# Altium schematic symbol library NXP_RFID.SchLib: 32 symbols
Pins are listed as number, name and electrical type; pins without a type are passive.

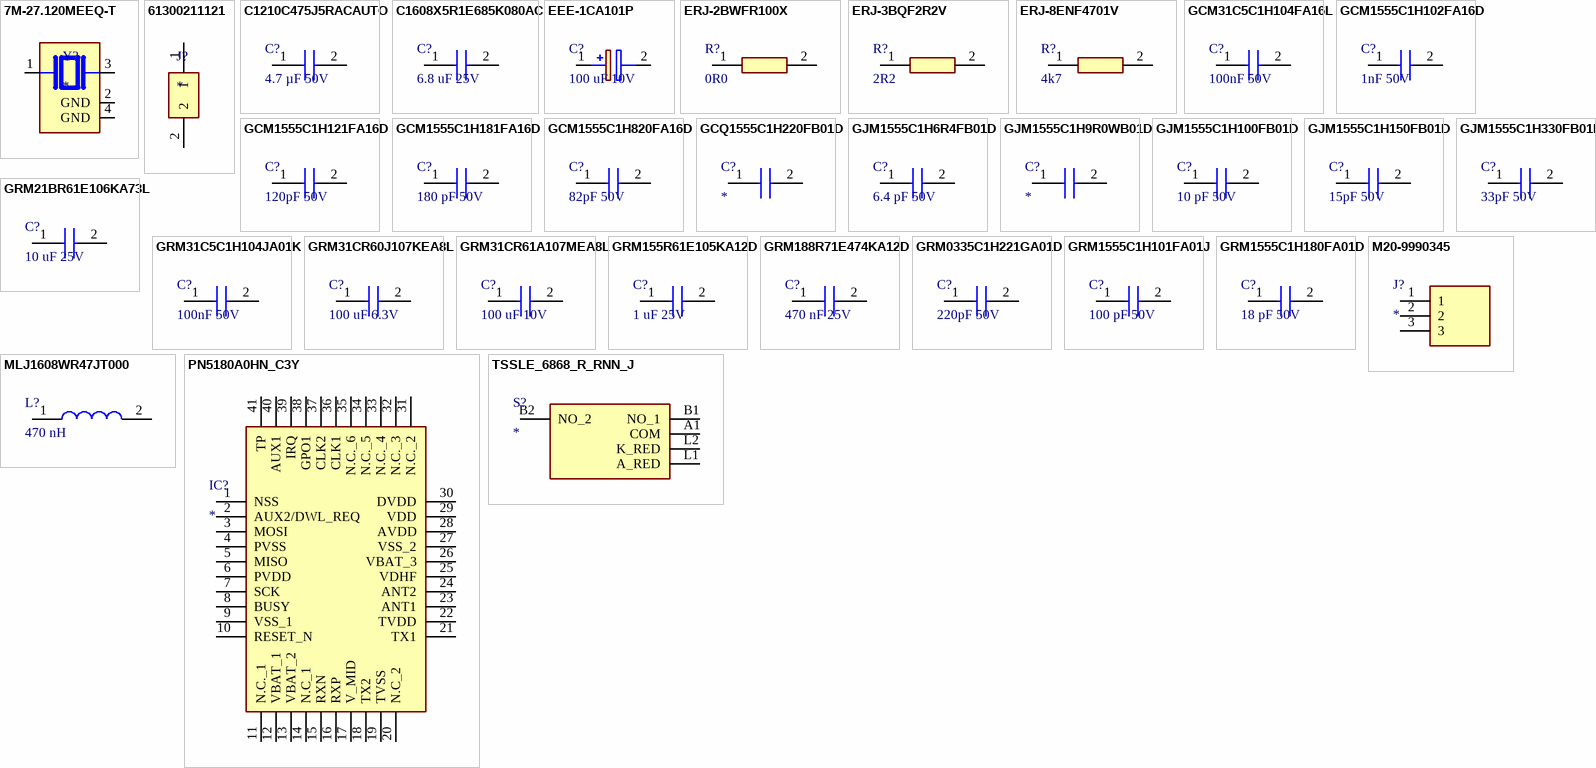
[diagram p0: symbols 7M-27.120MEEQ-T to TSSLE_6868_R_RNN_J]

## 7M-27.120MEEQ-T
designator Y?
27.12 MHz Â±10ppm Crystal 10pF 50 Ohms 4-SMD, No Lead; MF: TXC CORPORATION; MP: 7M-27.120MEEQ-T; SnapEDA_Link: https://www.snapeda.com/parts/7M-27.120MEEQ-T/TXC/view-part/?ref=snap; Package: NON STANDARD-4 TXC; Value: *; Check_prices: https://www.snapeda.com/parts/7M-27.120MEEQ-T/TXC/view-part/?ref=eda
footprint XTAL_7M-27.120MEEQ-T
pins: 1, 2 GND (power), 3 2, 4 GND (power)

## 61300211121
designator J?
Connector Header Through Hole 2 position 0.100" (2.54mm); Manufacturer_Name: Wurth Elektronik; Manufacturer_Part_Number: 61300211121; Datasheet Link: https://componentsearchengine.com/Datasheets/2/61300211121.pdf; Height: 8.54mm; Mouser Part Number: 710-61300211121; Mouser Price/Stock: https://www.mouser.co.uk/ProductDetail/Wurth-Elektronik/61300211121?qs=t4813l51qx%252B1A5GYDQxPlw%3D%3D
footprint HDRV2W110P0X254_1X2_508X254X854P (Footprint not found)
pins: 1, 2

## C1210C475J5RACAUTO
designator C?, comment 4.7 µF 50V
4.7 µF ±5% 50V Ceramic Capacitor X7R 1210 (3225 Metric); Manufacturer_Name: KEMET; Manufacturer_Part_Number: C1210C475J5RACAUTO; Datasheet Link: https://content.kemet.com/datasheets/KEM_C1023_X7R_AUTO_SMD.pdf; Mouser Part Number: 80-C1210C475J5RAUTO; Mouser Price/Stock: https://www.mouser.co.uk/ProductDetail/KEMET/C1210C475J5RACAUTO?qs=sSYV1F9c5cHOvq7Y3pUhfA%3D%3D
footprint C1210
pins: 1, 2

## C1608X5R1E685K080AC
designator C?, comment 6.8 uF 25V
6.8 µF ±10% 25V Ceramic Capacitor X5R 0603 (1608 Metric); Manufacturer_Name: TDK; Manufacturer_Part_Number: C1608X5R1E685K080AC; Datasheet Link: https://product.tdk.com/info/en/catalog/datasheets/mlcc_commercial_midvoltage_en.pdf; Height: 0.8mm; Mouser Part Number: 810-C1608X5R1E685KAC; Mouser Price/Stock: https://www.mouser.co.uk/ProductDetail/TDK/C1608X5R1E685K080AC?qs=6JAMGB%252BEdkzXGK7VHVYOAw%3D%3D; Arrow Part Number: C1608X5R1E685K080AC; Arrow Price/Stock: https://www.arrow.com/en/products/c1608x5r1e685k080ac/tdk
footprint CAPC1608X80N
pins: 1, 2

## EEE-1CA101P
designator C?, comment 100 uF 10V
100 µF 10 V Aluminum Electrolytic Capacitors Radial, Can - SMD 1000 Hrs @ 85°C; Manufacturer_Name: Panasonic; Manufacturer_Part_Number: EEE-1CA101P; Datasheet Link: http://industrial.panasonic.com/cdbs/www-data/pdf/RDE0000/ABA0000C1145.pdf; Height: 9.5mm; Mouser Part Number: 667-EEE-1CA101P; Mouser Price/Stock: https://www.mouser.co.uk/ProductDetail/Panasonic/EEE-1CA101P?qs=ANJC8C65Mw5AqqtBCte9ZA%3D%3D; Arrow Part Number: EEE-1CA101P; Arrow Price/Stock: https://www.arrow.com/en/products/eee-1ca101p/panasonic?region=nac
footprint EEE1AA221P
pins: 1 +, 2 -

## ERJ-2BWFR100X
designator R?, comment 0R0
100 mOhms ±1% 0.25W, 1/4W Chip Resistor 0402 (1005 Metric) Automotive AEC-Q200, Current Sense Thick Film; Manufacturer_Name: Panasonic; Manufacturer_Part_Number: ERJ-2BWFR100X; Datasheet Link: http://industrial.panasonic.com/cdbs/www-data/pdf/RDN0000/AOA0000C313.pdf; Mouser Part Number: 667-ERJ-2BWFR100X; Mouser Price/Stock: https://www.mouser.co.uk/ProductDetail/Panasonic/ERJ-2BWFR100X?qs=22lEN67Lqx4XUK2HJ8855A%3D%3D; Arrow Part Number: ERJ-2BWFR100X; Arrow Price/Stock: https://www.arrow.com/en/products/erj-2bwfr100x/panasonic
footprint ERJ_2LW_2BW_2B_(0402)
pins: 1, 2

## ERJ-3BQF2R2V
designator R?, comment 2R2
2.2 Ohms ±1% 0.25W, 1/4W Chip Resistor 0603 (1608 Metric) Automotive AEC-Q200, Current Sense Thick Film; Manufacturer_Name: Panasonic; Manufacturer_Part_Number: ERJ-3BQF2R2V; Datasheet Link: http://industrial.panasonic.com/cdbs/www-data/pdf/RDN0000/AOA0000C313.pdf; Mouser Part Number: 667-ERJ-3BQF2R2V; Mouser Price/Stock: http://www.mouser.com/Search/ProductDetail.aspx?qs=XEzh9JYCtJ3E4ySaXv8uNQ%3d%3d
footprint ERJ3_B_BQ_BW_LW_(0603)
pins: 1, 2

## ERJ-8ENF4701V
designator R?, comment 4k7
4.7 kOhms ±1% 0.25W, 1/4W Chip Resistor 1206 (3216 Metric) Automotive AEC-Q200 Thick Film; Manufacturer_Name: Panasonic; Manufacturer_Part_Number: ERJ-8ENF4701V; Datasheet Link: https://industrial.panasonic.com/cdbs/www-data/pdf/RDA0000/AOA0000C86.pdf; Height: 0.7mm; Mouser Part Number: 667-ERJ-8ENF4701V; Mouser Price/Stock: https://www.mouser.co.uk/ProductDetail/Panasonic/ERJ-8ENF4701V?qs=8%252BG0TiN%2FgVpQwzrqnqT%252BJA%3D%3D; Arrow Part Number: ERJ-8ENF4701V; Arrow Price/Stock: https://www.arrow.com/en/products/erj-8enf4701v/panasonic
footprint ERJ8ENF1000V
pins: 1, 2

## GCM31C5C1H104FA16L
designator C?, comment 100nF 50V
0.1 µF ±5% 50V Ceramic Capacitor C0G, NP0 1206 (3216 Metric); Manufacturer_Name: Murata Electronics; Manufacturer_Part_Number: GCM31C5C1H104FA16L; Datasheet Link: https://search.murata.co.jp/Ceramy/image/img/A01X/G101/ENG/GCM31C5C1H104FA16-01A.pdf; Height: 1.25mm; Mouser Part Number: 81-GCM31C5C1H104FA16; Mouser Price/Stock: https://www.mouser.co.uk/ProductDetail/Murata-Electronics/GCM31C5C1H104FA16L?qs=rrS6PyfT74fke0d0BEF0PA%3D%3D; Arrow Part Number: GCM31C5C1H104FA16L; Arrow Price/Stock: https://www.arrow.com/en/products/gcm31c5c1h104fa16l/murata-manufacturing?region=nac
footprint GCM31C5C2E183FX03L
pins: 1, 2

## GCM1555C1H102FA16D
designator C?, comment 1nF 50V
1000 pF ±1% 50V Ceramic Capacitor C0G, NP0 0402 (1005 Metric); Manufacturer_Name: Murata Electronics; Manufacturer_Part_Number: GCM1555C1H102FA16D; Datasheet Link: https://search.murata.co.jp/Ceramy/image/img/A01X/G101/ENG/GCM1555C1H102FA16-01A.pdf; Height: 0.55mm; Mouser Part Number: 81-GCM1555C1H102FA6D; Mouser Price/Stock: https://www.mouser.co.uk/ProductDetail/Murata-Electronics/GCM1555C1H102FA16D?qs=QzBtWTOodeXpE1CTmLdqWQ%3D%3D; Arrow Part Number: GCM1555C1H102FA16D; Arrow Price/Stock: https://www.arrow.com/en/products/gcm1555c1h102fa16d/murata-manufacturing
footprint GCM155
pins: 1, 2

## GCM1555C1H121FA16D
designator C?, comment 120pF 50V
120 pF ±1% 50V Ceramic Capacitor C0G, NP0 0402 (1005 Metric); Manufacturer_Name: Murata Electronics; Manufacturer_Part_Number: GCM1555C1H121FA16D; Datasheet Link: https://search.murata.co.jp/Ceramy/image/img/A01X/G101/ENG/GCM1555C1H121FA16-01A.pdf; Height: 0.55mm; Mouser Part Number: 81-GCM1555C1H121FA6D; Mouser Price/Stock: https://www.mouser.co.uk/ProductDetail/Murata-Electronics/GCM1555C1H121FA16D?qs=QzBtWTOodeX7iDCTp1VE3A%3D%3D; Arrow Part Number: GCM1555C1H121FA16D; Arrow Price/Stock: https://www.arrow.com/en/products/gcm1555c1h121fa16d/murata-manufacturing
footprint GCM155
pins: 1, 2

## GCM1555C1H181FA16D
designator C?, comment 180 pF 50V
180 pF ±1% 50V Ceramic Capacitor C0G, NP0 0402 (1005 Metric); Manufacturer_Name: Murata Electronics; Manufacturer_Part_Number: GCM1555C1H181FA16D; Datasheet Link: https://search.murata.co.jp/Ceramy/image/img/A01X/G101/ENG/GCM1555C1H181FA16-01A.pdf; Height: 0.55mm; Mouser Part Number: 81-GCM1555C1H181FA6D; Mouser Price/Stock: https://www.mouser.com/Search/Refine.aspx?Keyword=81-GCM1555C1H181FA6D; Arrow Part Number: GCM1555C1H181FA16D; Arrow Price/Stock: https://www.arrow.com/en/products/gcm1555c1h181fa16d/murata-manufacturing
footprint GCM155
pins: 1, 2

## GCM1555C1H820FA16D
designator C?, comment 82pF 50V
82 pF ±1% 50V Ceramic Capacitor C0G, NP0 0402 (1005 Metric); Manufacturer_Name: Murata Electronics; Manufacturer_Part_Number: GCM1555C1H820FA16D; Datasheet Link: https://search.murata.co.jp/Ceramy/image/img/A01X/G101/ENG/GCM1555C1H820FA16-01A.pdf; Height: 0.55mm
footprint GCM155
pins: 1, 2

## GCQ1555C1H220FB01D
designator C?
22 pF 50 VDC 1% 0402 C0G (NP0) AEC-Q200; Manufacturer_Name: Murata Electronics; Manufacturer_Part_Number: GCQ1555C1H220FB01D; Datasheet Link: https://search.murata.co.jp/Ceramy/image/img/A01X/G101/ENG/GCQ1555C1H220FB01-01A.pdf; Height: 0.55mm; Mouser Part Number: 81-GCQ1555C1H220FB1D; Mouser Price/Stock: https://www.mouser.co.uk/ProductDetail/Murata-Electronics/GCQ1555C1H220FB01D?qs=0lQeLiL1qyb7KWAECB47yA%3D%3D; Arrow Part Number: GCQ1555C1H220FB01D; Arrow Price/Stock: https://www.arrow.com/en/products/gcq1555c1h220fb01d/murata-manufacturing
footprint GCQ1555C1H8R2BB01D
pins: 1, 2

## GJM1555C1H6R4FB01D
designator C?, comment 6.4 pF 50V
6.4 pF 50 VDC 1% 0402 C0G (NP0); Manufacturer_Name: Murata Electronics; Manufacturer_Part_Number: GJM1555C1H6R4FB01D; Datasheet Link: https://search.murata.co.jp/Ceramy/image/img/A01X/G101/ENG/GJM1555C1H6R4FB01-01.pdf; Height: 0.55mm
footprint GJM1555C1H170JB01J
pins: 1, 2

## GJM1555C1H9R0WB01D
designator C?
9 pF ±0.05pF 50V Ceramic Capacitor C0G, NP0 0402 (1005 Metric); Manufacturer_Name: Murata Electronics; Manufacturer_Part_Number: GJM1555C1H9R0WB01D; Datasheet Link: https://search.murata.co.jp/Ceramy/image/img/A01X/G101/ENG/GJM1555C1H9R0WB01-01A.pdf; Height: 0.55mm
footprint CAPC1005X55N
pins: 1, 2

## GJM1555C1H100FB01D
designator C?, comment 10 pF 50V
10 pF ±1% 50V Ceramic Capacitor C0G, NP0 0402 (1005 Metric); Manufacturer_Name: Murata Electronics; Manufacturer_Part_Number: GJM1555C1H100FB01D; Datasheet Link: https://search.murata.co.jp/Ceramy/image/img/A01X/G101/ENG/GJM1555C1H100FB01-01A.pdf; Height: 0.55mm; Mouser Part Number: 81-GJM1555C1H100FB01; Mouser Price/Stock: https://www.mouser.co.uk/ProductDetail/Murata-Electronics/GJM1555C1H100FB01D?qs=vcjNRp8H9z0fzMnyPuUw%2Fg%3D%3D; Arrow Part Number: GJM1555C1H100FB01D; Arrow Price/Stock: https://www.arrow.com/en/products/gjm1555c1h100fb01d/murata-manufacturing
footprint GJM1555C1H170JB01J
pins: 1, 2

## GJM1555C1H150FB01D
designator C?, comment 15pF 50V
15 pF ±1% 50V Ceramic Capacitor C0G, NP0 0402 (1005 Metric); Manufacturer_Name: Murata Electronics; Manufacturer_Part_Number: GJM1555C1H150FB01D; Datasheet Link: https://search.murata.co.jp/Ceramy/image/img/A01X/G101/ENG/GJM1555C1H150FB01-01A.pdf; Height: 0.55mm; Mouser Part Number: 81-GJM1555C1H150FB1D; Mouser Price/Stock: https://www.mouser.co.uk/ProductDetail/Murata-Electronics/GJM1555C1H150FB01D?qs=pwh76yelNxCUkyBwdkbCyA%3D%3D; Arrow Part Number: GJM1555C1H150FB01D; Arrow Price/Stock: https://www.arrow.com/en/products/gjm1555c1h150fb01d/murata-manufacturing
footprint GJM1555C1H170JB01J
pins: 1, 2

## GJM1555C1H330FB01D
designator C?, comment 33pF 50V
33 pF ±1% 50V Ceramic Capacitor C0G, NP0 0402 (1005 Metric); Manufacturer_Name: Murata Electronics; Manufacturer_Part_Number: GJM1555C1H330FB01D; Datasheet Link: https://search.murata.co.jp/Ceramy/image/img/A01X/G101/ENG/GJM1555C1H330FB01-01A.pdf; Height: 0.55mm; Mouser Part Number: 81-GJM1555C1H330FB1D; Mouser Price/Stock: https://www.mouser.co.uk/ProductDetail/Murata-Electronics/GJM1555C1H330FB01D?qs=ui%252B2d9lVEI6RSGCNikAEJw%3D%3D; Arrow Part Number: GJM1555C1H330FB01D; Arrow Price/Stock: https://www.arrow.com/en/products/gjm1555c1h330fb01d/murata-manufacturing?region=nac
footprint CAPC1005X55N
pins: 1, 2

## GRM21BR61E106KA73L
designator C?, comment 10 uF 25V
10 µF ±10% 25V Ceramic Capacitor X5R 0805 (2012 Metric); Manufacturer_Name: Murata Electronics; Manufacturer_Part_Number: GRM21BR61E106KA73L; Datasheet Link: https://search.murata.co.jp/Ceramy/image/img/A01X/G101/ENG/GRM21BR61E106KA73-01A.pdf; Height: 1.45mm; Mouser Part Number: 81-GRM21BR61E106KA3L; Mouser Price/Stock: https://www.mouser.co.uk/ProductDetail/Murata-Electronics/GRM21BR61E106KA73L?qs=Uw8ySfEHS7LOsCQEzvRcNg%3D%3D; Arrow Part Number: GRM21BR61E106KA73L; Arrow Price/Stock: https://www.arrow.com/en/products/grm21br61e106ka73l/murata-manufacturing?utm_currency=USD&region=nac
footprint CAPC2012X145N
pins: 1, 2

## GRM31C5C1H104JA01K
designator C?, comment 100nF 50V
0.1 µF ±5% 50V Ceramic Capacitor C0G, NP0 1206 (3216 Metric); Manufacturer_Name: Murata Electronics; Manufacturer_Part_Number: GRM31C5C1H104JA01K; Datasheet Link: https://search.murata.co.jp/Ceramy/image/img/A01X/G101/ENG/GRM31C5C1H104JA01-01A.pdf; Height: 1.8mm; Mouser Part Number: 81-GRM31C5C1H104JA1K; Mouser Price/Stock: https://www.mouser.co.uk/ProductDetail/Murata-Electronics/GRM31C5C1H104JA01K?qs=MY6wChARw2zUedP3uqe6YA%3D%3D; Arrow Part Number: GRM31C5C1H104JA01K; Arrow Price/Stock: https://www.arrow.com/en/products/grm31c5c1h104ja01k/murata-manufacturing?region=nac
footprint CAPC3216X180N
pins: 1, 2

## GRM31CR60J107KEA8L
designator C?, comment 100 uF 6.3V
100 µF ±10% 6.3V Ceramic Capacitor X5R 1206 (3216 Metric); Manufacturer_Name: Murata Electronics; Manufacturer_Part_Number: GRM31CR60J107KEA8L; Datasheet Link: https://search.murata.co.jp/Ceramy/image/img/A01X/G101/ENG/GRM31CR60J107KEA8-01A.pdf; Height: 1.25mm; Mouser Part Number: 81-GRM31CR60J107KE8L; Mouser Price/Stock: https://www.mouser.co.uk/ProductDetail/Murata-Electronics/GRM31CR60J107KEA8L?qs=pUKx8fyJudDzdyEEakAKPA%3D%3D
footprint GRM31x
pins: 1, 2

## GRM31CR61A107MEA8L
designator C?, comment 100 uF 10V
100 µF ±20% 10V Ceramic Capacitor X5R 1206 (3216 Metric); Manufacturer_Name: Murata Electronics; Manufacturer_Part_Number: GRM31CR61A107MEA8L; Datasheet Link: https://search.murata.co.jp/Ceramy/image/img/A01X/G101/ENG/GRM31CR61A107MEA8-01A.pdf; Height: 1.25mm; Mouser Part Number: 81-GRM31CR61A107MA8L; Mouser Price/Stock: https://www.mouser.co.uk/ProductDetail/Murata-Electronics/GRM31CR61A107MEA8L?qs=hd1VzrDQEGidurXiDTJOCg%3D%3D; Arrow Part Number: GRM31CR61A107MEA8L; Arrow Price/Stock: https://www.arrow.com/en/products/grm31cr61a107mea8l/murata-manufacturing?utm_currency=USD&region=europe
footprint GRM31x
pins: 1, 2

## GRM155R61E105KA12D
designator C?, comment 1 uF 25V
1 µF ±10% 25V Ceramic Capacitor X5R 0402 (1005 Metric); Manufacturer_Name: Murata Electronics; Manufacturer_Part_Number: GRM155R61E105KA12D; Datasheet Link: https://search.murata.co.jp/Ceramy/image/img/A01X/G101/ENG/GRM155R61E105KA12-01A.pdf; Height: 0.7mm; Mouser Part Number: 81-GRM155R61E105KA2D; Mouser Price/Stock: https://www.mouser.co.uk/ProductDetail/Murata-Electronics/GRM155R61E105KA12D?qs=hiffU4J9V6bE4a81t2Mv5A%3D%3D; Arrow Part Number: GRM155R61E105KA12D; Arrow Price/Stock: https://www.arrow.com/en/products/grm155r61e105ka12d/murata-manufacturing?region=nac
footprint CAPC1005X70N
pins: 1, 2

## GRM188R71E474KA12D
designator C?, comment 470 nF 25V
0.47 µF ±10% 25V Ceramic Capacitor X7R 0603 (1608 Metric); Manufacturer_Name: Murata Electronics; Manufacturer_Part_Number: GRM188R71E474KA12D; Datasheet Link: https://search.murata.co.jp/Ceramy/image/img/A01X/G101/ENG/GRM188R71E474KA12-01A.pdf; Height: 0.9mm; Mouser Part Number: 81-GRM188R71E474KA12; Mouser Price/Stock: https://www.mouser.co.uk/ProductDetail/Murata-Electronics/GRM188R71E474KA12D?qs=5VWgUag8BO05DbKPNL84bA%3D%3D; Arrow Part Number: GRM188R71E474KA12D; Arrow Price/Stock: https://www.arrow.com/en/products/grm188r71e474ka12d/murata-manufacturing?region=nac
footprint GRM18x
pins: 1, 2

## GRM0335C1H221GA01D
designator C?, comment 220pF 50V
220 pF ±2% 50V Ceramic Capacitor C0G, NP0 0201 (0603 Metric); Manufacturer_Name: Murata Electronics; Manufacturer_Part_Number: GRM0335C1H221GA01D; Datasheet Link: https://search.murata.co.jp/Ceramy/image/img/A01X/G101/ENG/GRM0335C1H221GA01-01A.pdf; Height: 0.33mm; Mouser Part Number: 81-GRM0335C1H221GA1D; Mouser Price/Stock: https://www.mouser.co.uk/ProductDetail/Murata-Electronics/GRM0335C1H221GA01D?qs=hNud%2FORuBR0CUgcJlyKzlA%3D%3D
footprint GRM033D70J224ME01D
pins: 1, 2

## GRM1555C1H101FA01J
designator C?, comment 100 pF 50V
100 pF ±1% 50V Ceramic Capacitor C0G, NP0 0402 (1005 Metric); Manufacturer_Name: Murata Electronics; Manufacturer_Part_Number: GRM1555C1H101FA01J; Datasheet Link: https://search.murata.co.jp/Ceramy/image/img/A01X/G101/ENG/GRM1555C1H101FA01-01A.pdf; Height: 0.7mm; Mouser Part Number: 81-GRM1555C1H101FA1J; Mouser Price/Stock: https://www.mouser.co.uk/ProductDetail/Murata-Electronics/GRM1555C1H101FA01J?qs=ouTquLLW2S5iwhfDVY6IbQ%3D%3D; Arrow Part Number: GRM1555C1H101FA01J; Arrow Price/Stock: https://www.arrow.com/en/products/grm1555c1h101fa01j/murata-manufacturing
footprint CAPC1005X70N
pins: 1, 2

## GRM1555C1H180FA01D
designator C?, comment 18 pF 50V
18 pF ±1% 50V Ceramic Capacitor C0G, NP0 0402 (1005 Metric); Manufacturer_Name: Murata Electronics; Manufacturer_Part_Number: GRM1555C1H180FA01D; Datasheet Link: https://search.murata.co.jp/Ceramy/image/img/A01X/G101/ENG/GRM1555C1H180FA01-01A.pdf; Height: 0.7mm; Mouser Part Number: 81-GRM1555C1H180FA1D; Mouser Price/Stock: https://www.mouser.co.uk/ProductDetail/Murata-Electronics/GRM1555C1H180FA01D?qs=ouTquLLW2S4M5rRVZSOjyw%3D%3D; Arrow Part Number: GRM1555C1H180FA01D; Arrow Price/Stock: https://www.arrow.com/en/products/grm1555c1h180fa01d/murata-manufacturing?region=nac
footprint CAPC1005X70N
pins: 1, 2

## M20-9990345
designator J?
Connector Header Through Hole 3 position 0.100" (2.54mm); Manufacturer_Name: Harwin; Manufacturer_Part_Number: M20-9990345; Datasheet Link: https://cdn.harwin.com/pdfs/M20-999.pdf; Height: 8.64mm; Mouser Part Number: 855-M20-9990345; Mouser Price/Stock: https://www.mouser.co.uk/ProductDetail/Harwin/M20-9990345?qs=ulE8k0yEMYbl6ZPCtNdmpA%3D%3D
footprint HDRV3W64P0X254_1X3_762X254X864P
pins: 1, 2, 3

## MLJ1608WR47JT000
designator L?, comment 470 nH
470 nH Shielded Multilayer Inductor 400 mA 494mOhm Max 0603 (1608 Metric); Manufacturer_Name: TDK; Manufacturer_Part_Number: MLJ1608WR47JT000; Datasheet Link: https://product.tdk.com/system/files/dam/doc/product/inductor/inductor/smd/catalog/inductor_commercial_standard_mlj1608_en.pdf; Height: 0.95mm; Mouser Part Number: 810-MLJ1608WR47JT000; Mouser Price/Stock: https://www.mouser.co.uk/ProductDetail/TDK/MLJ1608WR47JT000?qs=XFe3dyCRgQg9kpQbVd6YyA%3D%3D; Arrow Part Number: MLJ1608WR47JT000; Arrow Price/Stock: https://www.arrow.com/en/products/mlj1608wr47jt000/tdk?region=nac
footprint INDC1608X95N
pins: 1, 2

## PN5180A0HN_C3Y
designator IC?
Integrated Circuit; Manufacturer_Name: NXP; Manufacturer_Part_Number: PN5180A0HN/C3Y; Datasheet Link: https://datasheet.datasheetarchive.com/originals/distributors/DKDS-31/606841.pdf; Height: 1mm; Mouser Part Number: 771-PN5180A0HN/C3Y; Mouser Price/Stock: https://www.mouser.co.uk/ProductDetail/NXP-Semiconductors/PN5180A0HN-C3Y?qs=1mbolxNpo8fIXIFwLHRV2A%3D%3D; Arrow Part Number: PN5180A0HN/C3Y; Arrow Price/Stock: https://www.arrow.com/en/products/pn5180a0hnc3y/nxp-semiconductors?utm_currency=USD&region=nac
footprint QFN50P600X600X100-41N-D
pins: 1 NSS, 2 AUX2/DWL_REQ, 3 MOSI, 4 PVSS, 5 MISO, 6 PVDD, 7 SCK, 8 BUSY, 9 VSS_1, 10 RESET_N, 11 N.C._1, 12 VBAT_1, 13 VBAT_2, 14 N.C_1, 15 RXN, 16 RXP, 17 V_MID, 18 TX2, 19 TVSS, 20 N.C_2, 21 TX1, 22 TVDD, 23 ANT1, 24 ANT2, 25 VDHF, 26 VBAT_3, 27 VSS_2, 28 AVDD, 29 VDD, 30 DVDD, 31 N.C._2, 32 N.C._3, 33 N.C._4, 34 N.C._5, 35 N.C._6, 36 CLK1, 37 CLK2, 38 GPO1, 39 IRQ, 40 AUX1, 41 TP

## TSSLE_6868_R_RNN_J
designator S?
Switch; Manufacturer_Name: KNITTER-SWITCH; Manufacturer_Part_Number: TSSLE 6868 R RNN J; Datasheet Link: https://knitter-switch.com/wp-content/media/pms/group-3/E-2020%20Catalogue%20page%2062.pdf; Height: 5.75mm
footprint TSSLE6868RRNNJ
pins: A1 COM, B1 NO_1, B2 NO_2, L1 A_RED, L2 K_RED